# Altium footprint library Kanaloa_v2.0.0_Waho.PcbLib: 11 footprints
Each footprint in its own frame and in the unit in brackets; x right, y up, seen from the top. Pads: shape width x height; smd on the part's side, far side on the other; paste and mask are expansions set on the pad; w line width, h text height; cw(c..) or ccw(c..) is an arc to the next point about the centre after c.
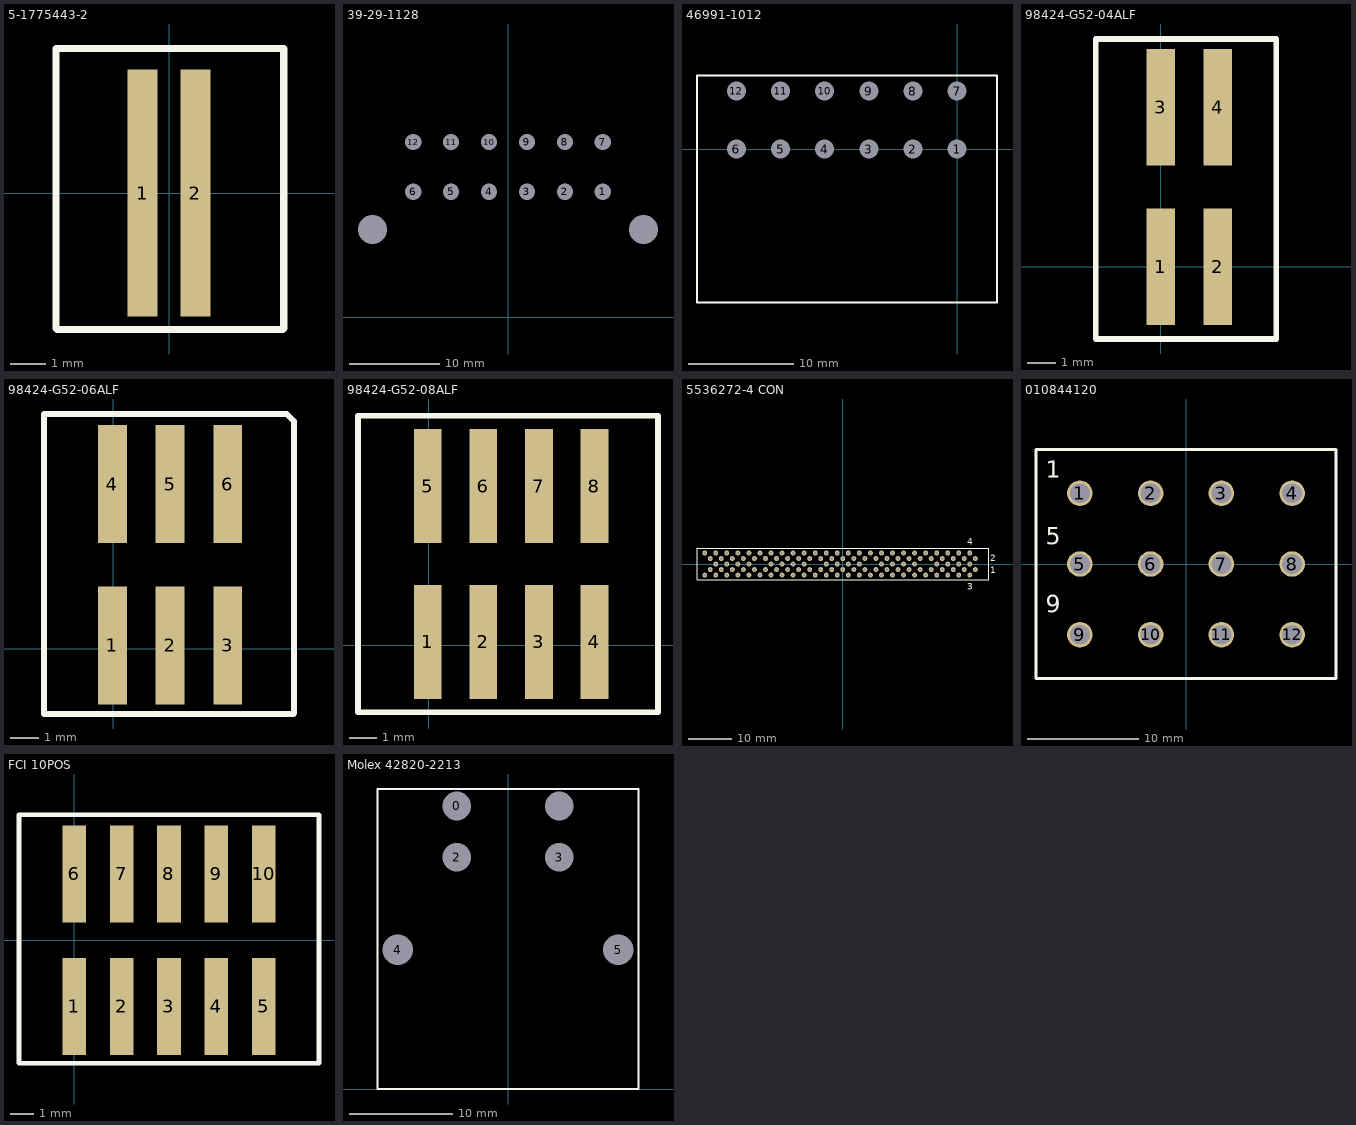
[diagram p0: the footprints below, top view; thin cyan lines are the x and y axes]

## 5-1775443-2 [mm] "CONN HEADER 1.5MM 2 POS Vert SMD"
pads (2):
  rect 0.85x7 smd: 1(-0.75,0) 2(0.75,0)
Top Overlay:
  lines w0.2: -3.2,4.089 -3.2,-3.835 -3.175,-3.861 3.226,-3.861 3.251,-3.835 3.251,4.089 -3.15,4.089
3D body: height 4.95, standoff -0.05, extent -2.25,-2.733 2.25,3.267

## 10-10-1121 [mil]
3D body: height 118.11, standoff -287.4, extent -1179.99,-186.37 1220.01,266.38

## 39-29-1128 [mm] "Molex Mini fit Jr, 12 Pos"
pads (14):
  round 1.524 hole 1.8: 1(10.5,13.9) 2(6.3,13.9) 3(2.1,13.9) 4(-2.1,13.9) 5(-6.3,13.9) 6(-10.5,13.9) 7(10.5,19.4) 8(6.3,19.4) 9(2.1,19.4) 10(-2.1,19.4) 11(-6.3,19.4) 12(-10.5,19.4)
  round 1.524 hole 3.2: mount(-15,9.7) mount(15,9.7)
3D body: height 11.4, standoff -3.5, extent -18.2,0 18.2,19.9

## 46991-1012 [mil] "12 Pos Right Angle Molex Conn"
pads (12):
  round 60 hole 71: 1(0,0) 2(-165.4,0) 3(-330.8,0) 4(-496.2,0) 5(-661.6,0) 6(-827,0) 7(0,217) 8(-165.4,217) 9(-330.8,217) 10(-496.2,217) 11(-661.6,217) 12(-827,217)
Top Overlay:
  lines w7.87: -975,-575 -975,275 -950,275 150,275 150,-575 -975,-575
3D body: height 444.09, standoff -118.9, extent -942.48,-576.34 122.48,240

## 98424-G52-04ALF [mm] "FCI Connector"
pads (4):
  rect 1x4.1 smd: 1(0,0) 2(2,0) 3(0,5.6) 4(2,5.6)
Top Overlay:
  lines w0.2: -2.286,-2.54 -1.905,-2.54 4.064,-2.54 4.064,8.001 -2.286,8.001 -2.286,-2.54
3D body: height 6.43, standoff -0.02, extent -2.032,-1.706 3.968,7.294

## 98424-G52-06ALF [mm] "FCI 6pos"
pads (6):
  rect 1x4.1 smd: 1(-0.032,0.121) 2(1.968,0.121) 3(3.968,0.121) 4(-0.032,5.721) 5(1.968,5.721) 6(3.968,5.721)
Top Overlay:
  lines w0.2: -2.413,-2.261 6.248,-2.261 6.274,-2.235 6.274,7.899 6.02,8.153 -2.413,8.153 -2.413,-2.261
3D body: height 6.43, standoff -0.02, extent -2.044,-1.575 5.956,7.425

## 98424-G52-08ALF [mm] "FCI 8Pos"
pads (8):
  rect 1x4.1 smd: 1(-0.032,0.121) 2(1.968,0.121) 3(3.968,0.121) 4(5.968,0.121) 5(-0.032,5.721) 6(1.968,5.721) 7(3.968,5.721) 8(5.968,5.721)
Top Overlay:
  lines w0.2: -2.54,-2.413 8.255,-2.413 8.255,8.255 -2.54,8.255 -2.54,-2.413
3D body: height 6.43, standoff -0.02, extent -2.054,-1.6 7.946,7.4

## 5536272-4 CON [mil] "TE Mezzanine Connector"
pads (120):
  round 44 hole 24 mask+0: 1(1200,-50) 2(1200,50) 3(1150,-100) 4(1150,100) 5(1100,-50) 6(1100,50) 7(1050,-100) 8(1050,100) 9(1000,-50) 10(1000,50) 11(950,-100) 12(950,100) 13(900,-50) 14(900,50) 15(850,-100) 16(850,100) 17(800,-50) 18(800,50) 19(750,-100) 20(750,100) 21(700,-50) 22(700,50) 23(650,-100) 24(650,100) 25(600,-50) 26(600,50) 27(550,-100) 28(550,100) 29(500,-50) 30(500,50) 31(450,-100) 32(450,100) 33(400,-50) 34(400,50) 35(350,-100) 36(350,100) 37(300,-50) 38(300,50) 39(250,-100) 40(250,100) 41(200,-50) 42(200,50) 43(150,-100) 44(150,100) 45(100,-50) 46(100,50) 47(50,-100) 48(50,100) 49(0,-50) 50(0,50) 51(-50,-100) 52(-50,100) 53(-100,-50) 54(-100,50) 55(-150,-100) 56(-150,100) 57(-200,-50) 58(-200,50) 59(-250,-100) 60(-250,100) 61(-300,-50) 62(-300,50) 63(-350,-100) 64(-350,100) 65(-400,-50) 66(-400,50) 67(-450,-100) 68(-450,100) 69(-500,-50) 70(-500,50) 71(-550,-100) 72(-550,100) 73(-600,-50) 74(-600,50) 75(-650,-100) 76(-650,100) 77(-700,-50) 78(-700,50) 79(-750,-100) 80(-750,100) 81(-800,-50) 82(-800,50) 83(-850,-100) 84(-850,100) 85(-900,-50) 86(-900,50) 87(-950,-100) 88(-950,100) 89(-1000,-50) 90(-1000,50) 91(-1050,-100) 92(-1050,100) 93(-1100,-50) 94(-1100,50) 95(-1150,-100) 96(-1150,100) 97(-1200,-50) 98(-1200,50) 99(-1250,-100) 100(-1250,100) GND(-1150,0) GND(-1050,0) GND(-950,0) GND(-850,0) GND(-650,0) GND(-550,0) GND(-450,0) GND(-350,0) GND(-150,0) GND(-50,0) GND(50,0) GND(150,0) GND(350,0) GND(450,0) GND(550,0) GND(650,0) GND(850,0) GND(950,0) GND(1050,0) GND(1150,0)
Top Overlay:
  lines w7.87: -1320,-143 1320,-143 1320,143 0,143 -1320,143 -1320,-143
  text "1" at 1336,-82 h60
  text "2" at 1336,25 h60
  text "4" at 1127,173 h60
  text "3" at 1128,-232 h60
3D body: height 341, standoff -124, extent -1376.99,-138.5 1337,148.5

## 010844120 [mil] "Molex MLX series connector - 12 contacts"
pads (12):
  round 90 hole 70: 1(-375,250) 2(-125,250) 3(125,250) 4(375,250) 5(-375,0) 6(-125,0) 7(125,0) 8(375,0) 9(-375,-250) 10(-125,-250) 11(125,-250) 12(375,-250)
Top Overlay:
  lines w10: -530,-405 530,-405 530,405 -530,405 -530,-405
  text "1" at -495,305 h60
  text "5" at -495,70 h60
  text "9" at -495,-170 h60
3D body: height 575, standoff -170, extent -595,-450 595,450

## FCI 10POS [mm] "98424-G52-10ALF"
pads (10):
  rect 1x4.1 smd: 1(0,-2.8) 2(2,-2.8) 3(4,-2.8) 4(6,-2.8) 5(8,-2.8) 6(0,2.8) 7(2,2.8) 8(4,2.8) 9(6,2.8) 10(8,2.8)
Top Overlay:
  lines w0.2: -2.337,-5.2 -2.337,5.3 10.338,5.3 10.338,-5.2 -2.337,-5.2
3D body: height 6.43, standoff -0.02, extent -2.038,-4.5 9.962,4.5

## Molex 42820-2213 [mil] "MOLEX mini-fit senior"
pads (6):
  round 60 hole 110: 0(-197,1085) 2(-197,888) 3(197,888) ""(197,1085)
  round 60 hole 118: 4(-423,534) 5(423,534)
Top Overlay:
  lines w7.87: -500,0 500,0 500,1125 500,1150 475,1150 -500,1150 -500,0
3D body: height 562.52, standoff -130.39, extent -468.9,0 468.89,1125.98